# EAGLE library part MF6 (library analog-audio-chips)
6th Order Switched Capacitor Butterworth Lowpass Filter
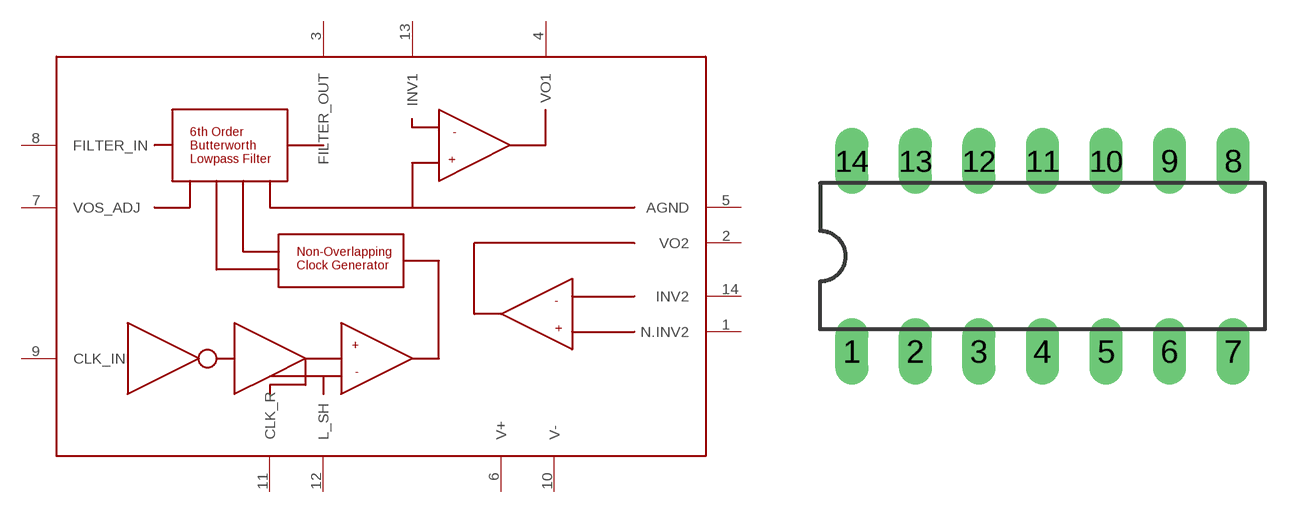
[diagram p7: symbol with the pads of DIL14; footprint DIL14]

Designator prefix -

## MF6  [DIL14]
1  N.INV2
2  VO2
3  FILTER_OUT
4  VO1
5  AGND
6  V+
7  VOS_ADJ
8  FILTER_IN
9  CLK_IN
10  V-
11  CLK_R
12  L_SH
13  INV1
14  INV2

## Footprint DIL14 (pad centres in mm)
Dual In Line Package
drill 0.813 long: 1 -7.62,-3.81; 2 -5.08,-3.81; 3 -2.54,-3.81; 4 0,-3.81; 5 2.54,-3.81; 6 5.08,-3.81; 7 7.62,-3.81; 8 7.62,3.81; 9 5.08,3.81; 10 2.54,3.81; 11 0,3.81; 12 -2.54,3.81; 13 -5.08,3.81; 14 -7.62,3.81